# Altium footprint library QFN_DFN.PcbLib: 70 footprints (part 4 of 5)
Each footprint in its own frame and in the unit in brackets; x right, y up, seen from the top. Pads: shape width x height; smd on the part's side, far side on the other; paste and mask are expansions set on the pad; w line width, h text height; cw(c..) or ccw(c..) is an arc to the next point about the centre after c.
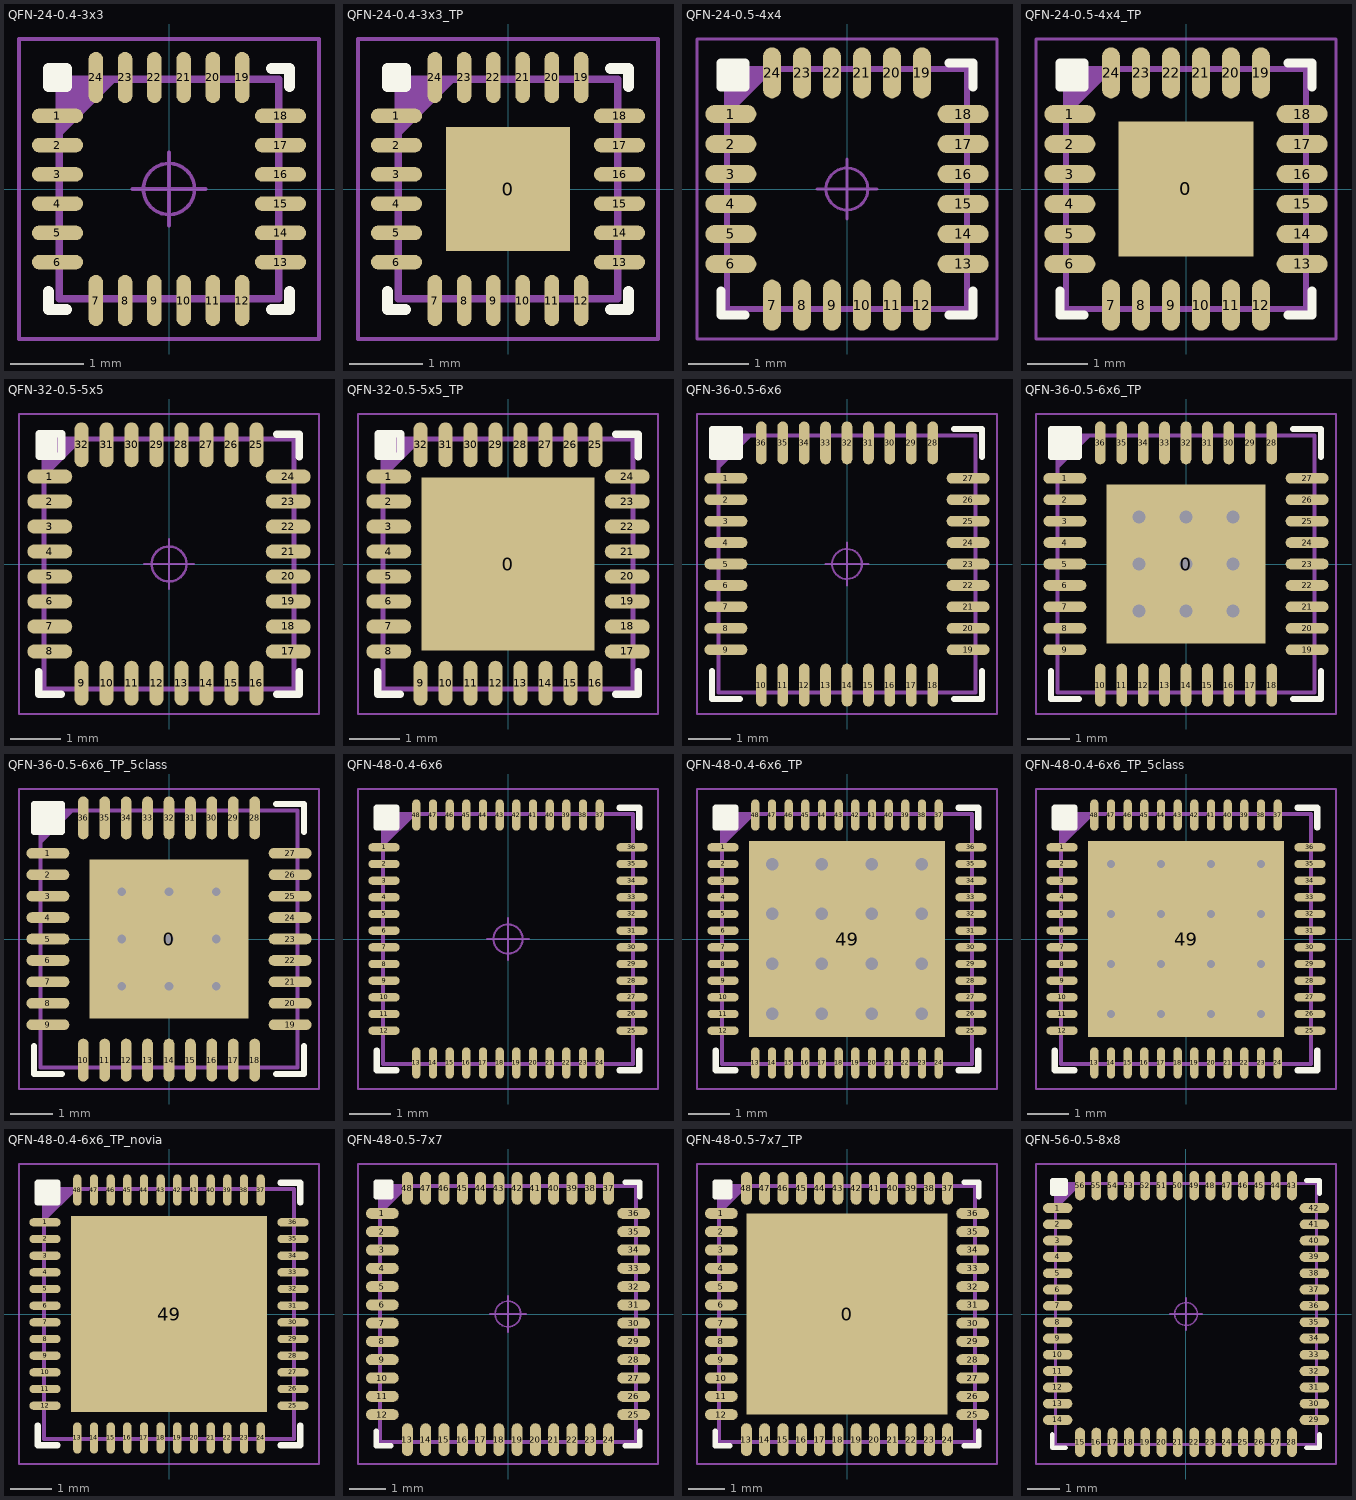
[diagram p3: the footprints below, top view; thin cyan lines are the x and y axes]

## QFN-24-0.4-3x3 [mm] "QFN, 24-Leads, Body 3,00x3,00mm, Pitch 0,40mm, Thermal Pad 1,70x1,54mm, IPC High Density"
height 1
pads (24):
  oval 0.7x0.2 smd: 1(-1.525,1) 2(-1.525,0.6) 3(-1.525,0.2) 4(-1.525,-0.2) 5(-1.525,-0.6) 6(-1.525,-1) 13(1.525,-1) 14(1.525,-0.6) 15(1.525,-0.2) 16(1.525,0.2) 17(1.525,0.6) 18(1.525,1)
  oval 0.2x0.7 smd: 7(-1,-1.525) 8(-0.6,-1.525) 9(-0.2,-1.525) 10(0.2,-1.525) 11(0.6,-1.525) 12(1,-1.525) 19(1,1.525) 20(0.6,1.525) 21(0.2,1.525) 22(-0.2,1.525) 23(-0.6,1.525) 24(-1,1.525)
Top Overlay:
  lines w0.15: -1.65,-1.4 -1.65,-1.65 -1.4,-1.65 ; -1.525,1.4 -1.525,1.65 ; 1.4,-1.65 1.65,-1.65 1.65,-1.4 ; 1.4,1.65 1.65,1.65 1.65,1.4 ; -1.65,1.4 -1.4,1.4 -1.4,1.65 -1.65,1.65 -1.65,1.4
ASM Top:
  region: -1.5,1.5 -1.5,0.7 -0.7,1.5
  lines w0.1: -1.5,-1.5 -1.5,1.5 1.5,1.5 1.5,-1.5 -1.5,-1.5
  text ".Designator" at -1,-0.2 h0.5
PNP Top:
  circle w0.05: c0,0 r0.35
  lines w0.05: -0.5,0 0.5,0 ; 0,-0.5 0,0.5 ; -2.05,-2.05 2.05,-2.05 2.05,2.05 -2.05,2.05 -2.05,-2.05
3D body "QFN40P300X300X100_HS-25L.step": height 1, standoff 0, extent -1.52,-1.52 1.52,1.52

## QFN-24-0.4-3x3_TP [mm] "QFN, 24-Leads, Body 3,00x3,00mm, Pitch 0,40mm, Thermal Pad 1,70x1,54mm, IPC High Density"
height 1
pads (25):
  rect 1.7x1.7 smd: 0(0,0)
  oval 0.7x0.2 smd: 1(-1.525,1) 2(-1.525,0.6) 3(-1.525,0.2) 4(-1.525,-0.2) 5(-1.525,-0.6) 6(-1.525,-1) 13(1.525,-1) 14(1.525,-0.6) 15(1.525,-0.2) 16(1.525,0.2) 17(1.525,0.6) 18(1.525,1)
  oval 0.2x0.7 smd: 7(-1,-1.525) 8(-0.6,-1.525) 9(-0.2,-1.525) 10(0.2,-1.525) 11(0.6,-1.525) 12(1,-1.525) 19(1,1.525) 20(0.6,1.525) 21(0.2,1.525) 22(-0.2,1.525) 23(-0.6,1.525) 24(-1,1.525)
Top Overlay:
  lines w0.15: -1.65,-1.4 -1.65,-1.65 -1.4,-1.65 ; -1.525,1.4 -1.525,1.65 ; 1.4,-1.65 1.65,-1.65 1.65,-1.4 ; 1.4,1.65 1.65,1.65 1.65,1.4 ; -1.65,1.4 -1.65,1.65 -1.4,1.65 -1.4,1.4 -1.65,1.4
ASM Top:
  region: -1.5,1.5 -1.5,0.7 -0.7,1.5
  lines w0.1: -1.5,-1.5 -1.5,1.5 1.5,1.5 1.5,-1.5 -1.5,-1.5
  text ".Designator" at -1,-0.2 h0.5
PNP Top:
  circle w0.05: c0,0 r0.35
  lines w0.05: -0.5,0 0.5,0 ; 0,-0.5 0,0.5 ; -2.05,-2.05 2.05,-2.05 2.05,2.05 -2.05,2.05 -2.05,-2.05
3D body "QFN40P300X300X100_HS-25L.step": height 1, standoff 0, extent -1.52,-1.52 1.52,1.52

## QFN-24-0.5-4x4 [mm]
pads (24):
  oval 0.85x0.3 smd: 1(-1.935,1.25) 2(-1.935,0.75) 3(-1.935,0.25) 4(-1.935,-0.25) 5(-1.935,-0.75) 6(-1.935,-1.25) 13(1.935,-1.25) 14(1.935,-0.75) 15(1.935,-0.25) 16(1.935,0.25) 17(1.935,0.75) 18(1.935,1.25)
  oval 0.3x0.85 smd: 7(-1.25,-1.935) 8(-0.75,-1.935) 9(-0.25,-1.935) 10(0.25,-1.935) 11(0.75,-1.935) 12(1.25,-1.935) 19(1.25,1.935) 20(0.75,1.935) 21(0.25,1.935) 22(-0.25,1.935) 23(-0.75,1.935) 24(-1.25,1.935)
Top Overlay:
  lines w0.15: -2.1,-1.7 -2.1,-2.1 -1.7,-2.1 ; -2,1.7 -2,2.1 ; -1.9,1.7 -1.9,2.1 ; -1.8,1.7 -1.8,2.1 ; 1.7,-2.1 2.1,-2.1 2.1,-1.7 ; 1.7,2.1 2.1,2.1 2.1,1.7 ; -2.1,1.7 -1.7,1.7 -1.7,2.1 -2.1,2.1 -2.1,1.7
ASM Top:
  region: -2,2 -2,1.2 -1.2,2
  lines w0.1: -2,-2 -2,2 2,2 2,-2 -2,-2
  text ".Designator" at -0.6,-0.3 h0.5
PNP Top:
  circle w0.05: c0,0 r0.35
  lines w0.05: -0.5,0 0.5,0 ; 0,-0.5 0,0.5 ; -2.5,-2.5 2.5,-2.5 2.5,2.5 -2.5,2.5 -2.5,-2.5
3D body "QFN-24-0.5.STEP": height 1, standoff 0, extent -2,-2 2,2

## QFN-24-0.5-4x4_TP [mm]
pads (25):
  rect 2.25x2.25 smd: 0(0,0)
  oval 0.85x0.3 smd: 1(-1.935,1.25) 2(-1.935,0.75) 3(-1.935,0.25) 4(-1.935,-0.25) 5(-1.935,-0.75) 6(-1.935,-1.25) 13(1.935,-1.25) 14(1.935,-0.75) 15(1.935,-0.25) 16(1.935,0.25) 17(1.935,0.75) 18(1.935,1.25)
  oval 0.3x0.85 smd: 7(-1.25,-1.935) 8(-0.75,-1.935) 9(-0.25,-1.935) 10(0.25,-1.935) 11(0.75,-1.935) 12(1.25,-1.935) 19(1.25,1.935) 20(0.75,1.935) 21(0.25,1.935) 22(-0.25,1.935) 23(-0.75,1.935) 24(-1.25,1.935)
Top Overlay:
  lines w0.15: -2.1,-1.7 -2.1,-2.1 -1.7,-2.1 ; -2,1.7 -2,2.1 ; -1.9,1.7 -1.9,2.1 ; -1.8,1.7 -1.8,2.1 ; 1.7,-2.1 2.1,-2.1 2.1,-1.7 ; 1.7,2.1 2.1,2.1 2.1,1.7 ; -2.1,1.7 -2.1,2.1 -1.7,2.1 -1.7,1.7 -2.1,1.7
ASM Top:
  region: -2,2 -2,1.2 -1.2,2
  lines w0.1: -2,-2 2,-2 2,2 -2,2 -2,-2
  text ".Designator" at -0.6,-0.3 h0.5
PNP Top:
  circle w0.05: c0,0 r0.35
  lines w0.05: -0.5,0 0.5,0 ; 0,-0.5 0,0.5 ; -2.5,-2.5 -2.5,2.5 2.5,2.5 2.5,-2.5 -2.5,-2.5
3D body "QFN-24-0.5.STEP": height 1, standoff 0, extent -2,-2 2,2

## QFN-32-0.5-5x5 [mm]
pads (32):
  oval 0.9x0.28 smd: 1(-2.385,1.75) 2(-2.385,1.25) 3(-2.385,0.75) 4(-2.385,0.25) 5(-2.385,-0.25) 6(-2.385,-0.75) 7(-2.385,-1.25) 8(-2.385,-1.75) 17(2.385,-1.75) 18(2.385,-1.25) 19(2.385,-0.75) 20(2.385,-0.25) 21(2.385,0.25) 22(2.385,0.75) 23(2.385,1.25) 24(2.385,1.75)
  oval 0.28x0.9 smd: 9(-1.75,-2.385) 10(-1.25,-2.385) 11(-0.75,-2.385) 12(-0.25,-2.385) 13(0.25,-2.385) 14(0.75,-2.385) 15(1.25,-2.385) 16(1.75,-2.385) 25(1.75,2.385) 26(1.25,2.385) 27(0.75,2.385) 28(0.25,2.385) 29(-0.25,2.385) 30(-0.75,2.385) 31(-1.25,2.385) 32(-1.75,2.385)
Top Overlay:
  lines w0.15: -2.6,-2.15 -2.6,-2.6 -2.15,-2.6 ; -2.5,2.15 -2.5,2.6 ; -2.4,2.15 -2.4,2.6 ; -2.3,2.15 -2.3,2.6 ; 2.15,-2.6 2.6,-2.6 2.6,-2.15 ; 2.15,2.6 2.6,2.6 2.6,2.15 ; -2.6,2.15 -2.6,2.6 -2.15,2.6 -2.15,2.15 -2.6,2.15
ASM Top:
  region: -2.5,2.5 -2.5,1.7 -1.7,2.5
  lines w0.1: -2.5,-2.5 2.5,-2.5 2.5,2.5 -2.5,2.5 -2.5,-2.5
  text ".Designator" at -1.75,-0.2 h0.75
PNP Top:
  circle w0.05: c0,0 r0.35
  lines w0.05: -0.5,0 0.5,0 ; 0,-0.5 0,0.5 ; -3,-3 3,-3 3,3 -3,3 -3,-3
3D body "QFN-32-0.5.STEP": height 0.75, standoff 0, extent -2.51,-2.51 2.51,2.51

## QFN-32-0.5-5x5_TP [mm]
pads (33):
  rect 3.45x3.45 smd: 0(0,0)
  oval 0.9x0.28 smd: 1(-2.385,1.75) 2(-2.385,1.25) 3(-2.385,0.75) 4(-2.385,0.25) 5(-2.385,-0.25) 6(-2.385,-0.75) 7(-2.385,-1.25) 8(-2.385,-1.75) 17(2.385,-1.75) 18(2.385,-1.25) 19(2.385,-0.75) 20(2.385,-0.25) 21(2.385,0.25) 22(2.385,0.75) 23(2.385,1.25) 24(2.385,1.75)
  oval 0.28x0.9 smd: 9(-1.75,-2.385) 10(-1.25,-2.385) 11(-0.75,-2.385) 12(-0.25,-2.385) 13(0.25,-2.385) 14(0.75,-2.385) 15(1.25,-2.385) 16(1.75,-2.385) 25(1.75,2.385) 26(1.25,2.385) 27(0.75,2.385) 28(0.25,2.385) 29(-0.25,2.385) 30(-0.75,2.385) 31(-1.25,2.385) 32(-1.75,2.385)
Top Overlay:
  lines w0.15: -2.6,-2.15 -2.6,-2.6 -2.15,-2.6 ; -2.5,2.15 -2.5,2.6 ; -2.4,2.15 -2.4,2.6 ; -2.3,2.15 -2.3,2.6 ; 2.15,-2.6 2.6,-2.6 2.6,-2.15 ; 2.15,2.6 2.6,2.6 2.6,2.15 ; -2.6,2.15 -2.6,2.6 -2.15,2.6 -2.15,2.15 -2.6,2.15
ASM Top:
  region: -2.5,2.5 -2.5,1.7 -1.7,2.5
  lines w0.1: -2.5,-2.5 2.5,-2.5 2.5,2.5 -2.5,2.5 -2.5,-2.5
  text ".Designator" at -1.25,-0.2 h0.75
PNP Top:
  circle w0.05: c0,0 r0.35
  lines w0.05: -0.5,0 0.5,0 ; 0,-0.5 0,0.5 ; -3,-3 -3,3 3,3 3,-3 -3,-3
3D body "QFN-32-0.5.STEP": height 0.75, standoff 0, extent -2.51,-2.51 2.51,2.51

## QFN-36-0.5-6x6 [mm] "QFN, 36-Leads, Body 6,00x6,00mm, Pitch 0,50mm, Thermal Pad 3,70x3,70mm, IPC Medium Density"
height 1
pads (36):
  oval 1x0.25 smd: 1(-2.825,2) 2(-2.825,1.5) 3(-2.825,1) 4(-2.825,0.5) 5(-2.825,0) 6(-2.825,-0.5) 7(-2.825,-1) 8(-2.825,-1.5) 9(-2.825,-2) 19(2.825,-2) 20(2.825,-1.5) 21(2.825,-1) 22(2.825,-0.5) 23(2.825,0) 24(2.825,0.5) 25(2.825,1) 26(2.825,1.5) 27(2.825,2)
  oval 0.25x1 smd: 10(-2,-2.825) 11(-1.5,-2.825) 12(-1,-2.825) 13(-0.5,-2.825) 14(0,-2.825) 15(0.5,-2.825) 16(1,-2.825) 17(1.5,-2.825) 18(2,-2.825) 28(2,2.825) 29(1.5,2.825) 30(1,2.825) 31(0.5,2.825) 32(0,2.825) 33(-0.5,2.825) 34(-1,2.825) 35(-1.5,2.825) 36(-2,2.825)
Top Overlay:
  rectangle: -3.15,2.5 -2.5,3.15
  lines w0.15: -3.15,-2.5 -3.15,-3.15 -2.5,-3.15 ; 2.5,-3.15 3.15,-3.15 3.15,-2.5 ; 2.5,3.15 3.15,3.15 3.15,2.5 ; -3.15,2.5 -3.15,3.15 -2.5,3.15 -2.5,2.5 -3.15,2.5
ASM Top:
  region: -3,3 -3,2.2 -2.2,3
  lines w0.1: -3,-3 3,-3 3,3 -3,3 -3,-3
  text ".Designator" at -1.15,-0.2 h0.75
PNP Top:
  circle w0.05: c0,0 r0.35
  lines w0.05: -0.5,0 0.5,0 ; 0,-0.5 0,0.5 ; -3.5,-3.5 3.5,-3.5 3.5,3.5 -3.5,3.5 -3.5,-3.5
3D body "QFN50P600X600X100_HS-37N.step": height 1, standoff 0, extent -3.02,-3.02 3.02,3.02

## QFN-36-0.5-6x6_TP [mm] "QFN, 36-Leads, Body 6,00x6,00mm, Pitch 0,50mm, Thermal Pad 3,70x3,70mm, IPC Medium Density"
height 1
pads (37):
  rect 3.7x3.7 smd: 0(0,0)
  oval 1x0.25 smd: 1(-2.825,2) 2(-2.825,1.5) 3(-2.825,1) 4(-2.825,0.5) 5(-2.825,0) 6(-2.825,-0.5) 7(-2.825,-1) 8(-2.825,-1.5) 9(-2.825,-2) 19(2.825,-2) 20(2.825,-1.5) 21(2.825,-1) 22(2.825,-0.5) 23(2.825,0) 24(2.825,0.5) 25(2.825,1) 26(2.825,1.5) 27(2.825,2)
  oval 0.25x1 smd: 10(-2,-2.825) 11(-1.5,-2.825) 12(-1,-2.825) 13(-0.5,-2.825) 14(0,-2.825) 15(0.5,-2.825) 16(1,-2.825) 17(1.5,-2.825) 18(2,-2.825) 28(2,2.825) 29(1.5,2.825) 30(1,2.825) 31(0.5,2.825) 32(0,2.825) 33(-0.5,2.825) 34(-1,2.825) 35(-1.5,2.825) 36(-2,2.825)
via 1.1,-1.1 diameter 0.7 hole 0.3
via 0,-1.1 diameter 0.7 hole 0.3
via -1.1,-1.1 diameter 0.7 hole 0.3
via 1.1,0 diameter 0.7 hole 0.3
via 0,0 diameter 0.7 hole 0.3
via -1.1,0 diameter 0.7 hole 0.3
via 1.1,1.1 diameter 0.7 hole 0.3
via 0,1.1 diameter 0.7 hole 0.3
via -1.1,1.1 diameter 0.7 hole 0.3
Top Overlay:
  rectangle: -3.15,2.5 -2.5,3.15
  lines w0.15: -3.15,-2.5 -3.15,-3.15 -2.5,-3.15 ; 2.5,-3.15 3.15,-3.15 3.15,-2.5 ; 2.5,3.15 3.15,3.15 3.15,2.5 ; -3.15,2.5 -3.15,3.15 -2.5,3.15 -2.5,2.5 -3.15,2.5
ASM Top:
  region: -3,3 -3,2.2 -2.2,3
  lines w0.1: -3,-3 3,-3 3,3 -3,3 -3,-3
  text ".Designator" at -1.15,-0.2 h0.75
PNP Top:
  circle w0.05: c0,0 r0.35
  lines w0.05: -0.5,0 0.5,0 ; 0,-0.5 0,0.5 ; -3.5,-3.5 3.5,-3.5 3.5,3.5 -3.5,3.5 -3.5,-3.5
3D body "QFN50P600X600X100_HS-37N.step": height 1, standoff 0, extent -3.02,-3.02 3.02,3.02

## QFN-36-0.5-6x6_TP_5class [mm] "QFN, 36-Leads, Body 6,00x6,00mm, Pitch 0,50mm, Thermal Pad 3,70x3,70mm, IPC Medium Density"
height 1
pads (37):
  rect 3.7x3.7 smd: 0(0,0)
  oval 1x0.25 smd: 1(-2.825,2) 2(-2.825,1.5) 3(-2.825,1) 4(-2.825,0.5) 5(-2.825,0) 6(-2.825,-0.5) 7(-2.825,-1) 8(-2.825,-1.5) 9(-2.825,-2) 19(2.825,-2) 20(2.825,-1.5) 21(2.825,-1) 22(2.825,-0.5) 23(2.825,0) 24(2.825,0.5) 25(2.825,1) 26(2.825,1.5) 27(2.825,2)
  oval 0.25x1 smd: 10(-2,-2.825) 11(-1.5,-2.825) 12(-1,-2.825) 13(-0.5,-2.825) 14(0,-2.825) 15(0.5,-2.825) 16(1,-2.825) 17(1.5,-2.825) 18(2,-2.825) 28(2,2.825) 29(1.5,2.825) 30(1,2.825) 31(0.5,2.825) 32(0,2.825) 33(-0.5,2.825) 34(-1,2.825) 35(-1.5,2.825) 36(-2,2.825)
via 1.1,-1.1 diameter 0.45 hole 0.2
via 0,-1.1 diameter 0.45 hole 0.2
via -1.1,-1.1 diameter 0.45 hole 0.2
via 1.1,0 diameter 0.45 hole 0.2
via 0,0 diameter 0.45 hole 0.2
via -1.1,0 diameter 0.45 hole 0.2
via 1.1,1.1 diameter 0.45 hole 0.2
via 0,1.1 diameter 0.45 hole 0.2
via -1.1,1.1 diameter 0.45 hole 0.2
Top Overlay:
  rectangle: -3.15,2.5 -2.5,3.15
  lines w0.15: -3.15,-2.5 -3.15,-3.15 -2.5,-3.15 ; 2.5,-3.15 3.15,-3.15 3.15,-2.5 ; 2.5,3.15 3.15,3.15 3.15,2.5 ; -3.15,2.5 -3.15,3.15 -2.5,3.15 -2.5,2.5 -3.15,2.5
ASM Top:
  region: -3,3 -3,2.2 -2.2,3
  lines w0.1: -3,-3 3,-3 3,3 -3,3 -3,-3
  text ".Designator" at -1.15,-0.2 h0.75
PNP Top:
  circle w0.05: c0,0 r0.35
  lines w0.05: -0.5,0 0.5,0 ; 0,-0.5 0,0.5 ; -3.5,-3.5 3.5,-3.5 3.5,3.5 -3.5,3.5 -3.5,-3.5
3D body "QFN50P600X600X100_HS-37N.step": height 1, standoff 0, extent -3.02,-3.02 3.02,3.02

## QFN-48-0.4-6x6 [mm]
pads (48):
  oval 0.75x0.2 smd: 1(-2.975,2.2) 2(-2.975,1.8) 3(-2.975,1.4) 4(-2.975,1) 5(-2.975,0.6) 6(-2.975,0.2) 7(-2.975,-0.2) 8(-2.975,-0.6) 9(-2.975,-1) 10(-2.975,-1.4) 11(-2.975,-1.8) 12(-2.975,-2.2) 25(2.975,-2.2) 26(2.975,-1.8) 27(2.975,-1.4) 28(2.975,-1) 29(2.975,-0.6) 30(2.975,-0.2) 31(2.975,0.2) 32(2.975,0.6) 33(2.975,1) 34(2.975,1.4) 35(2.975,1.8) 36(2.975,2.2)
  oval 0.2x0.75 smd: 13(-2.2,-2.975) 14(-1.8,-2.975) 15(-1.4,-2.975) 16(-1,-2.975) 17(-0.6,-2.975) 18(-0.2,-2.975) 19(0.2,-2.975) 20(0.6,-2.975) 21(1,-2.975) 22(1.4,-2.975) 23(1.8,-2.975) 24(2.2,-2.975) 37(2.2,2.975) 38(1.8,2.975) 39(1.4,2.975) 40(1,2.975) 41(0.6,2.975) 42(0.2,2.975) 43(-0.2,2.975) 44(-0.6,2.975) 45(-1,2.975) 46(-1.4,2.975) 47(-1.8,2.975) 48(-2.2,2.975)
Top Overlay:
  lines w0.15: -3.15,-2.675 -3.15,-3.15 -2.675,-3.15 ; -3,2.675 -3,3.15 ; -2.9,2.675 -2.9,3.15 ; -2.8,2.675 -2.8,3.15 ; 2.675,-3.15 3.15,-3.15 3.15,-2.675 ; 2.675,3.15 3.15,3.15 3.15,2.675 ; -3.15,2.675 -3.15,3.15 -2.675,3.15 -2.675,2.675 -3.15,2.675
ASM Top:
  region: -3,3 -3,2.2 -2.2,3
  lines w0.1: -3,-3 3,-3 3,3 -3,3 -3,-3
  text ".Designator" at -2.1,-0.3 h0.75
PNP Top:
  circle w0.05: c0,0 r0.35
  lines w0.05: -0.5,0 0.5,0 ; 0,-0.5 0,0.5 ; -3.6,-3.6 3.6,-3.6 3.6,3.6 -3.6,3.6 -3.6,-3.6
3D body "User Library-QFN48.step": height 0.86, standoff -0.01, extent -3.02,-3.02 3.02,3.02

## QFN-48-0.4-6x6_TP [mm]
pads (49):
  oval 0.75x0.2 smd: 1(-2.975,2.2) 2(-2.975,1.8) 3(-2.975,1.4) 4(-2.975,1) 5(-2.975,0.6) 6(-2.975,0.2) 7(-2.975,-0.2) 8(-2.975,-0.6) 9(-2.975,-1) 10(-2.975,-1.4) 11(-2.975,-1.8) 12(-2.975,-2.2) 25(2.975,-2.2) 26(2.975,-1.8) 27(2.975,-1.4) 28(2.975,-1) 29(2.975,-0.6) 30(2.975,-0.2) 31(2.975,0.2) 32(2.975,0.6) 33(2.975,1) 34(2.975,1.4) 35(2.975,1.8) 36(2.975,2.2)
  oval 0.2x0.75 smd: 13(-2.2,-2.975) 14(-1.8,-2.975) 15(-1.4,-2.975) 16(-1,-2.975) 17(-0.6,-2.975) 18(-0.2,-2.975) 19(0.2,-2.975) 20(0.6,-2.975) 21(1,-2.975) 22(1.4,-2.975) 23(1.8,-2.975) 24(2.2,-2.975) 37(2.2,2.975) 38(1.8,2.975) 39(1.4,2.975) 40(1,2.975) 41(0.6,2.975) 42(0.2,2.975) 43(-0.2,2.975) 44(-0.6,2.975) 45(-1,2.975) 46(-1.4,2.975) 47(-1.8,2.975) 48(-2.2,2.975)
  rect 4.7x4.7 smd: 49(0,0)
via 1.8,-1.8 diameter 0.7 hole 0.3
via 0.6,-1.8 diameter 0.7 hole 0.3
via -0.6,-1.8 diameter 0.7 hole 0.3
via -1.8,-1.8 diameter 0.7 hole 0.3
via 1.8,-0.6 diameter 0.7 hole 0.3
via 0.6,-0.6 diameter 0.7 hole 0.3
via -0.6,-0.6 diameter 0.7 hole 0.3
via -1.8,-0.6 diameter 0.7 hole 0.3
via 1.8,0.6 diameter 0.7 hole 0.3
via 0.6,0.6 diameter 0.7 hole 0.3
via -0.6,0.6 diameter 0.7 hole 0.3
via -1.8,0.6 diameter 0.7 hole 0.3
via 1.8,1.8 diameter 0.7 hole 0.3
via 0.6,1.8 diameter 0.7 hole 0.3
via -0.6,1.8 diameter 0.7 hole 0.3
via -1.8,1.8 diameter 0.7 hole 0.3
Top Overlay:
  lines w0.15: -3.15,-2.675 -3.15,-3.15 -2.675,-3.15 ; -3,2.675 -3,3.15 ; -2.9,2.675 -2.9,3.15 ; -2.8,2.675 -2.8,3.15 ; 2.675,-3.15 3.15,-3.15 3.15,-2.675 ; 2.675,3.15 3.15,3.15 3.15,2.675 ; -3.15,2.675 -3.15,3.15 -2.675,3.15 -2.675,2.675 -3.15,2.675
ASM Top:
  region: -3,3 -3,2.2 -2.2,3
  lines w0.1: -3,-3 -3,3 3,3 3,-3 -3,-3
  text ".Designator" at -2.1,-0.3 h0.75
PNP Top:
  circle w0.05: c0,0 r0.35
  lines w0.05: -0.5,0 0.5,0 ; 0,-0.5 0,0.5 ; -3.6,-3.6 3.6,-3.6 3.6,3.6 -3.6,3.6 -3.6,-3.6
3D body "User Library-QFN48.step": height 0.86, standoff -0.01, extent -3.02,-3.02 3.02,3.02

## QFN-48-0.4-6x6_TP_5class [mm]
pads (49):
  oval 0.75x0.2 smd: 1(-2.975,2.2) 2(-2.975,1.8) 3(-2.975,1.4) 4(-2.975,1) 5(-2.975,0.6) 6(-2.975,0.2) 7(-2.975,-0.2) 8(-2.975,-0.6) 9(-2.975,-1) 10(-2.975,-1.4) 11(-2.975,-1.8) 12(-2.975,-2.2) 25(2.975,-2.2) 26(2.975,-1.8) 27(2.975,-1.4) 28(2.975,-1) 29(2.975,-0.6) 30(2.975,-0.2) 31(2.975,0.2) 32(2.975,0.6) 33(2.975,1) 34(2.975,1.4) 35(2.975,1.8) 36(2.975,2.2)
  oval 0.2x0.75 smd: 13(-2.2,-2.975) 14(-1.8,-2.975) 15(-1.4,-2.975) 16(-1,-2.975) 17(-0.6,-2.975) 18(-0.2,-2.975) 19(0.2,-2.975) 20(0.6,-2.975) 21(1,-2.975) 22(1.4,-2.975) 23(1.8,-2.975) 24(2.2,-2.975) 37(2.2,2.975) 38(1.8,2.975) 39(1.4,2.975) 40(1,2.975) 41(0.6,2.975) 42(0.2,2.975) 43(-0.2,2.975) 44(-0.6,2.975) 45(-1,2.975) 46(-1.4,2.975) 47(-1.8,2.975) 48(-2.2,2.975)
  rect 4.7x4.7 smd: 49(0,0)
via 1.8,-1.8 diameter 0.4 hole 0.2
via 0.6,-1.8 diameter 0.4 hole 0.2
via -0.6,-1.8 diameter 0.4 hole 0.2
via -1.8,-1.8 diameter 0.4 hole 0.2
via 1.8,-0.6 diameter 0.4 hole 0.2
via 0.6,-0.6 diameter 0.4 hole 0.2
via -0.6,-0.6 diameter 0.4 hole 0.2
via -1.8,-0.6 diameter 0.4 hole 0.2
via 1.8,0.6 diameter 0.4 hole 0.2
via 0.6,0.6 diameter 0.4 hole 0.2
via -0.6,0.6 diameter 0.4 hole 0.2
via -1.8,0.6 diameter 0.4 hole 0.2
via 1.8,1.8 diameter 0.4 hole 0.2
via 0.6,1.8 diameter 0.4 hole 0.2
via -0.6,1.8 diameter 0.4 hole 0.2
via -1.8,1.8 diameter 0.4 hole 0.2
Top Overlay:
  lines w0.15: -3.15,-2.675 -3.15,-3.15 -2.675,-3.15 ; -3,2.675 -3,3.15 ; -2.9,2.675 -2.9,3.15 ; -2.8,2.675 -2.8,3.15 ; 2.675,-3.15 3.15,-3.15 3.15,-2.675 ; 2.675,3.15 3.15,3.15 3.15,2.675 ; -3.15,2.675 -3.15,3.15 -2.675,3.15 -2.675,2.675 -3.15,2.675
ASM Top:
  region: -3,3 -3,2.2 -2.2,3
  lines w0.1: -3,-3 -3,3 3,3 3,-3 -3,-3
  text ".Designator" at -2.1,-0.3 h0.75
PNP Top:
  circle w0.05: c0,0 r0.35
  lines w0.05: -0.5,0 0.5,0 ; 0,-0.5 0,0.5 ; -3.6,-3.6 3.6,-3.6 3.6,3.6 -3.6,3.6 -3.6,-3.6
3D body "User Library-QFN48.step": height 0.86, standoff -0.01, extent -3.02,-3.02 3.02,3.02

## QFN-48-0.4-6x6_TP_novia [mm]
pads (49):
  oval 0.75x0.2 smd: 1(-2.975,2.2) 2(-2.975,1.8) 3(-2.975,1.4) 4(-2.975,1) 5(-2.975,0.6) 6(-2.975,0.2) 7(-2.975,-0.2) 8(-2.975,-0.6) 9(-2.975,-1) 10(-2.975,-1.4) 11(-2.975,-1.8) 12(-2.975,-2.2) 25(2.975,-2.2) 26(2.975,-1.8) 27(2.975,-1.4) 28(2.975,-1) 29(2.975,-0.6) 30(2.975,-0.2) 31(2.975,0.2) 32(2.975,0.6) 33(2.975,1) 34(2.975,1.4) 35(2.975,1.8) 36(2.975,2.2)
  oval 0.2x0.75 smd: 13(-2.2,-2.975) 14(-1.8,-2.975) 15(-1.4,-2.975) 16(-1,-2.975) 17(-0.6,-2.975) 18(-0.2,-2.975) 19(0.2,-2.975) 20(0.6,-2.975) 21(1,-2.975) 22(1.4,-2.975) 23(1.8,-2.975) 24(2.2,-2.975) 37(2.2,2.975) 38(1.8,2.975) 39(1.4,2.975) 40(1,2.975) 41(0.6,2.975) 42(0.2,2.975) 43(-0.2,2.975) 44(-0.6,2.975) 45(-1,2.975) 46(-1.4,2.975) 47(-1.8,2.975) 48(-2.2,2.975)
  rect 4.7x4.7 smd: 49(0,0)
Top Overlay:
  lines w0.15: -3.15,-2.675 -3.15,-3.15 -2.675,-3.15 ; -3,2.675 -3,3.15 ; -2.9,2.675 -2.9,3.15 ; -2.8,2.675 -2.8,3.15 ; 2.675,-3.15 3.15,-3.15 3.15,-2.675 ; 2.675,3.15 3.15,3.15 3.15,2.675 ; -3.15,2.675 -2.675,2.675 -2.675,3.15 -3.15,3.15 -3.15,2.675
ASM Top:
  region: -3,3 -3,2.2 -2.2,3
  lines w0.1: -3,-3 3,-3 3,3 -3,3 -3,-3
  text ".Designator" at -2.1,-0.3 h0.75
PNP Top:
  circle w0.05: c0,0 r0.35
  lines w0.05: -0.5,0 0.5,0 ; 0,-0.5 0,0.5 ; -3.6,-3.6 -3.6,3.6 3.6,3.6 3.6,-3.6 -3.6,-3.6
3D body "User Library-QFN48.step": height 0.86, standoff -0.01, extent -3.02,-3.02 3.02,3.02

## QFN-48-0.5-7x7 [mm]
pads (48):
  oval 0.9x0.3 smd: 1(-3.435,2.75) 2(-3.435,2.25) 3(-3.435,1.75) 4(-3.435,1.25) 5(-3.435,0.75) 6(-3.435,0.25) 7(-3.435,-0.25) 8(-3.435,-0.75) 9(-3.435,-1.25) 10(-3.435,-1.75) 11(-3.435,-2.25) 12(-3.435,-2.75) 25(3.435,-2.75) 26(3.435,-2.25) 27(3.435,-1.75) 28(3.435,-1.25) 29(3.435,-0.75) 30(3.435,-0.25) 31(3.435,0.25) 32(3.435,0.75) 33(3.435,1.25) 34(3.435,1.75) 35(3.435,2.25) 36(3.435,2.75)
  oval 0.3x0.9 smd: 13(-2.75,-3.435) 14(-2.25,-3.435) 15(-1.75,-3.435) 16(-1.25,-3.435) 17(-0.75,-3.435) 18(-0.25,-3.435) 19(0.25,-3.435) 20(0.75,-3.435) 21(1.25,-3.435) 22(1.75,-3.435) 23(2.25,-3.435) 24(2.75,-3.435) 37(2.75,3.435) 38(2.25,3.435) 39(1.75,3.435) 40(1.25,3.435) 41(0.75,3.435) 42(0.25,3.435) 43(-0.25,3.435) 44(-0.75,3.435) 45(-1.25,3.435) 46(-1.75,3.435) 47(-2.25,3.435) 48(-2.75,3.435)
Top Overlay:
  lines w0.15: -3.6,-3.2 -3.6,-3.6 -3.2,-3.6 ; -3.5,3.2 -3.5,3.6 ; -3.4,3.2 -3.4,3.6 ; -3.3,3.2 -3.3,3.6 ; 3.2,-3.6 3.6,-3.6 3.6,-3.2 ; 3.2,3.6 3.6,3.6 3.6,3.2 ; -3.6,3.2 -3.6,3.6 -3.2,3.6 -3.2,3.2 -3.6,3.2
ASM Top:
  region: -3.5,3.5 -3.5,2.7 -2.7,3.5
  lines w0.1: -3.5,-3.5 -3.5,3.5 3.5,3.5 3.5,-3.5 -3.5,-3.5
  text ".Designator" at -2.55,-0.2 h0.75
PNP Top:
  circle w0.05: c0,0 r0.35
  lines w0.05: -0.5,0 0.5,0 ; 0,-0.5 0,0.5 ; -4.1,-4.1 -4.1,4.1 4.1,4.1 4.1,-4.1 -4.1,-4.1
3D body "QFN-48-0.5.STEP": height 0.78, standoff -0.02, extent -3.51,-3.51 3.51,3.51

## QFN-48-0.5-7x7_TP [mm]
pads (49):
  rect 5.5x5.5 smd: 0(0,0)
  oval 0.9x0.3 smd: 1(-3.435,2.75) 2(-3.435,2.25) 3(-3.435,1.75) 4(-3.435,1.25) 5(-3.435,0.75) 6(-3.435,0.25) 7(-3.435,-0.25) 8(-3.435,-0.75) 9(-3.435,-1.25) 10(-3.435,-1.75) 11(-3.435,-2.25) 12(-3.435,-2.75) 25(3.435,-2.75) 26(3.435,-2.25) 27(3.435,-1.75) 28(3.435,-1.25) 29(3.435,-0.75) 30(3.435,-0.25) 31(3.435,0.25) 32(3.435,0.75) 33(3.435,1.25) 34(3.435,1.75) 35(3.435,2.25) 36(3.435,2.75)
  oval 0.3x0.9 smd: 13(-2.75,-3.435) 14(-2.25,-3.435) 15(-1.75,-3.435) 16(-1.25,-3.435) 17(-0.75,-3.435) 18(-0.25,-3.435) 19(0.25,-3.435) 20(0.75,-3.435) 21(1.25,-3.435) 22(1.75,-3.435) 23(2.25,-3.435) 24(2.75,-3.435) 37(2.75,3.435) 38(2.25,3.435) 39(1.75,3.435) 40(1.25,3.435) 41(0.75,3.435) 42(0.25,3.435) 43(-0.25,3.435) 44(-0.75,3.435) 45(-1.25,3.435) 46(-1.75,3.435) 47(-2.25,3.435) 48(-2.75,3.435)
Top Overlay:
  lines w0.15: -3.6,-3.2 -3.6,-3.6 -3.2,-3.6 ; -3.5,3.2 -3.5,3.6 ; -3.4,3.2 -3.4,3.6 ; -3.3,3.2 -3.3,3.6 ; 3.2,-3.6 3.6,-3.6 3.6,-3.2 ; 3.2,3.6 3.6,3.6 3.6,3.2 ; -3.6,3.2 -3.2,3.2 -3.2,3.6 -3.6,3.6 -3.6,3.2
ASM Top:
  region: -3.5,3.5 -3.5,2.7 -2.7,3.5
  lines w0.1: -3.5,-3.5 3.5,-3.5 3.5,3.5 -3.5,3.5 -3.5,-3.5
  text ".Designator" at -1.75,-0.2 h0.75
PNP Top:
  circle w0.05: c0,0 r0.35
  lines w0.05: -0.5,0 0.5,0 ; 0,-0.5 0,0.5 ; -4.1,-4.1 -4.1,4.1 4.1,4.1 4.1,-4.1 -4.1,-4.1
3D body "QFN-48-0.5.STEP": height 0.78, standoff -0.02, extent -3.51,-3.51 3.51,3.51

## QFN-56-0.5-8x8 [mm]
pads (56):
  oval 0.9x0.3 smd: 1(-3.935,3.25) 2(-3.935,2.75) 3(-3.935,2.25) 4(-3.935,1.75) 5(-3.935,1.25) 6(-3.935,0.75) 7(-3.935,0.25) 8(-3.935,-0.25) 9(-3.935,-0.75) 10(-3.935,-1.25) 11(-3.935,-1.75) 12(-3.935,-2.25) 13(-3.935,-2.75) 14(-3.935,-3.25) 29(3.935,-3.25) 30(3.935,-2.75) 31(3.935,-2.25) 32(3.935,-1.75) 33(3.935,-1.25) 34(3.935,-0.75) 35(3.935,-0.25) 36(3.935,0.25) 37(3.935,0.75) 38(3.935,1.25) 39(3.935,1.75) 40(3.935,2.25) 41(3.935,2.75) 42(3.935,3.25)
  oval 0.3x0.9 smd: 15(-3.25,-3.935) 16(-2.75,-3.935) 17(-2.25,-3.935) 18(-1.75,-3.935) 19(-1.25,-3.935) 20(-0.75,-3.935) 21(-0.25,-3.935) 22(0.25,-3.935) 23(0.75,-3.935) 24(1.25,-3.935) 25(1.75,-3.935) 26(2.25,-3.935) 27(2.75,-3.935) 28(3.25,-3.935) 43(3.25,3.935) 44(2.75,3.935) 45(2.25,3.935) 46(1.75,3.935) 47(1.25,3.935) 48(0.75,3.935) 49(0.25,3.935) 50(-0.25,3.935) 51(-0.75,3.935) 52(-1.25,3.935) 53(-1.75,3.935) 54(-2.25,3.935) 55(-2.75,3.935) 56(-3.25,3.935)
Top Overlay:
  lines w0.15: -4.1,-3.7 -4.1,-4.1 -3.7,-4.1 ; -4,3.7 -4,4.1 ; -3.9,3.7 -3.9,4.1 ; -3.8,3.7 -3.8,4.1 ; 3.7,-4.1 4.1,-4.1 4.1,-3.7 ; 3.7,4.1 4.1,4.1 4.1,3.7 ; -4.1,3.7 -4.1,4.1 -3.7,4.1 -3.7,3.7 -4.1,3.7
ASM Top:
  region: -4,4 -4,3.2 -3.2,4
  lines w0.1: -4,-4 4,-4 4,4 -4,4 -4,-4
  text ".Designator" at -2.3,-0.3 h0.75
PNP Top:
  circle w0.05: c0,0 r0.35
  lines w0.05: -0.5,0 0.5,0 ; 0,-0.5 0,0.5 ; -4.6,-4.6 -4.6,4.6 4.6,4.6 4.6,-4.6 -4.6,-4.6
3D body "QFN-56-0.5.STEP": height 0.77, standoff 0, extent -4,-4 4,4